# Altium schematic symbol library resistor.SCHLIB: 206 symbols
Pins are listed as number, name and electrical type; pins without a type are passive.

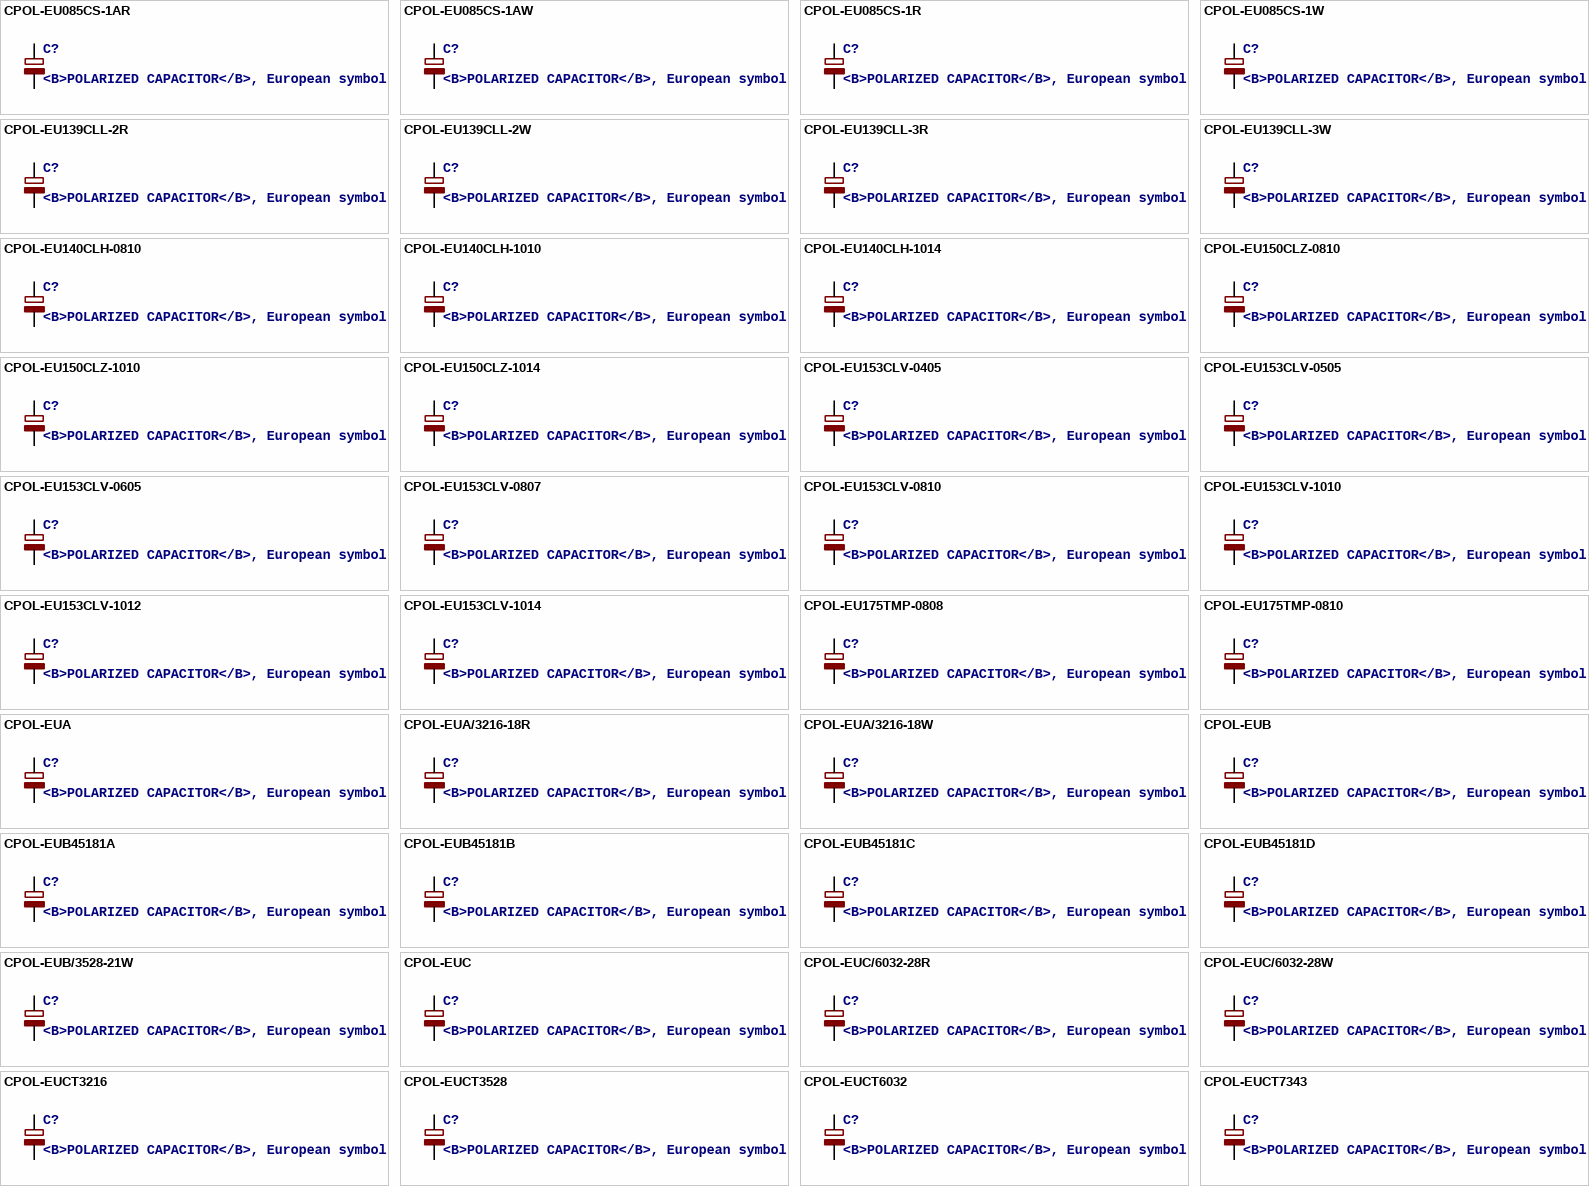
[diagram p0: symbols CPOL-EU085CS-1AR to CPOL-EUCT7343]

## CPOL-EU085CS-1AR
designator C?, comment <B>POLARIZED CAPACITOR</B>, European symbol
footprint 085CS_1AR
pins: +, -

## CPOL-EU085CS-1AW
designator C?, comment <B>POLARIZED CAPACITOR</B>, European symbol
footprint 085CS_1AW
pins: +, -

## CPOL-EU085CS-1R
designator C?, comment <B>POLARIZED CAPACITOR</B>, European symbol
footprint 085CS_1R
pins: +, -

## CPOL-EU085CS-1W
designator C?, comment <B>POLARIZED CAPACITOR</B>, European symbol
footprint 085CS_1W
pins: +, -

## CPOL-EU139CLL-2R
designator C?, comment <B>POLARIZED CAPACITOR</B>, European symbol
footprint 139CLL-2R
pins: +, -

## CPOL-EU139CLL-2W
designator C?, comment <B>POLARIZED CAPACITOR</B>, European symbol
footprint 139CLL-2W
pins: +, -

## CPOL-EU139CLL-3R
designator C?, comment <B>POLARIZED CAPACITOR</B>, European symbol
footprint 139CLL-3R
pins: +, -

## CPOL-EU139CLL-3W
designator C?, comment <B>POLARIZED CAPACITOR</B>, European symbol
footprint 139CLL-3W
pins: +, -

## CPOL-EU140CLH-0810
designator C?, comment <B>POLARIZED CAPACITOR</B>, European symbol
footprint 140CLH-0810
pins: +, -

## CPOL-EU140CLH-1010
designator C?, comment <B>POLARIZED CAPACITOR</B>, European symbol
footprint 140CLH-1010
pins: +, -

## CPOL-EU140CLH-1014
designator C?, comment <B>POLARIZED CAPACITOR</B>, European symbol
footprint 140CLH-1014
pins: +, -

## CPOL-EU150CLZ-0810
designator C?, comment <B>POLARIZED CAPACITOR</B>, European symbol
footprint 150CLZ-0810
pins: +, -

## CPOL-EU150CLZ-1010
designator C?, comment <B>POLARIZED CAPACITOR</B>, European symbol
footprint 150CLZ-1010
pins: +, -

## CPOL-EU150CLZ-1014
designator C?, comment <B>POLARIZED CAPACITOR</B>, European symbol
footprint 150CLZ-1014
pins: +, -

## CPOL-EU153CLV-0405
designator C?, comment <B>POLARIZED CAPACITOR</B>, European symbol
footprint 153CLV-0405
pins: +, -

## CPOL-EU153CLV-0505
designator C?, comment <B>POLARIZED CAPACITOR</B>, European symbol
footprint 153CLV-0505
pins: +, -

## CPOL-EU153CLV-0605
designator C?, comment <B>POLARIZED CAPACITOR</B>, European symbol
footprint 153CLV-0605
pins: +, -

## CPOL-EU153CLV-0807
designator C?, comment <B>POLARIZED CAPACITOR</B>, European symbol
footprint 153CLV-0807
pins: +, -

## CPOL-EU153CLV-0810
designator C?, comment <B>POLARIZED CAPACITOR</B>, European symbol
footprint 153CLV-0810
pins: +, -

## CPOL-EU153CLV-1010
designator C?, comment <B>POLARIZED CAPACITOR</B>, European symbol
footprint 153CLV-1010
pins: +, -

## CPOL-EU153CLV-1012
designator C?, comment <B>POLARIZED CAPACITOR</B>, European symbol
footprint 153CLV-1012
pins: +, -

## CPOL-EU153CLV-1014
designator C?, comment <B>POLARIZED CAPACITOR</B>, European symbol
footprint 153CLV-1014
pins: +, -

## CPOL-EU175TMP-0808
designator C?, comment <B>POLARIZED CAPACITOR</B>, European symbol
footprint 175TMP-0808
pins: +, -

## CPOL-EU175TMP-0810
designator C?, comment <B>POLARIZED CAPACITOR</B>, European symbol
footprint 175TMP-0810
pins: +, -

## CPOL-EUA
designator C?, comment <B>POLARIZED CAPACITOR</B>, European symbol
footprint PANASONIC_A
pins: +, -

## CPOL-EUA/3216-18R
designator C?, comment <B>POLARIZED CAPACITOR</B>, European symbol
footprint A/3216-18R
pins: +, -

## CPOL-EUA/3216-18W
designator C?, comment <B>POLARIZED CAPACITOR</B>, European symbol
footprint A/3216-18W
pins: +, -

## CPOL-EUB
designator C?, comment <B>POLARIZED CAPACITOR</B>, European symbol
footprint PANASONIC_B
pins: +, -

## CPOL-EUB45181A
designator C?, comment <B>POLARIZED CAPACITOR</B>, European symbol
footprint B45181A
pins: +, -

## CPOL-EUB45181B
designator C?, comment <B>POLARIZED CAPACITOR</B>, European symbol
footprint B45181B
pins: +, -

## CPOL-EUB45181C
designator C?, comment <B>POLARIZED CAPACITOR</B>, European symbol
footprint B45181C
pins: +, -

## CPOL-EUB45181D
designator C?, comment <B>POLARIZED CAPACITOR</B>, European symbol
footprint B45181D
pins: +, -

## CPOL-EUB/3528-21W
designator C?, comment <B>POLARIZED CAPACITOR</B>, European symbol
footprint B/3528-21W
pins: +, -

## CPOL-EUC
designator C?, comment <B>POLARIZED CAPACITOR</B>, European symbol
footprint PANASONIC_C
pins: +, -

## CPOL-EUC/6032-28R
designator C?, comment <B>POLARIZED CAPACITOR</B>, European symbol
footprint C/6032-28R
pins: +, -

## CPOL-EUC/6032-28W
designator C?, comment <B>POLARIZED CAPACITOR</B>, European symbol
footprint C/6032-28W
pins: +, -

## CPOL-EUCT3216
designator C?, comment <B>POLARIZED CAPACITOR</B>, European symbol
footprint CT3216
pins: + -, - +

## CPOL-EUCT3528
designator C?, comment <B>POLARIZED CAPACITOR</B>, European symbol
footprint CT3528
pins: + -, - +

## CPOL-EUCT6032
designator C?, comment <B>POLARIZED CAPACITOR</B>, European symbol
footprint CT6032
pins: + -, - +

## CPOL-EUCT7343
designator C?, comment <B>POLARIZED CAPACITOR</B>, European symbol
footprint CT7343
pins: +, -

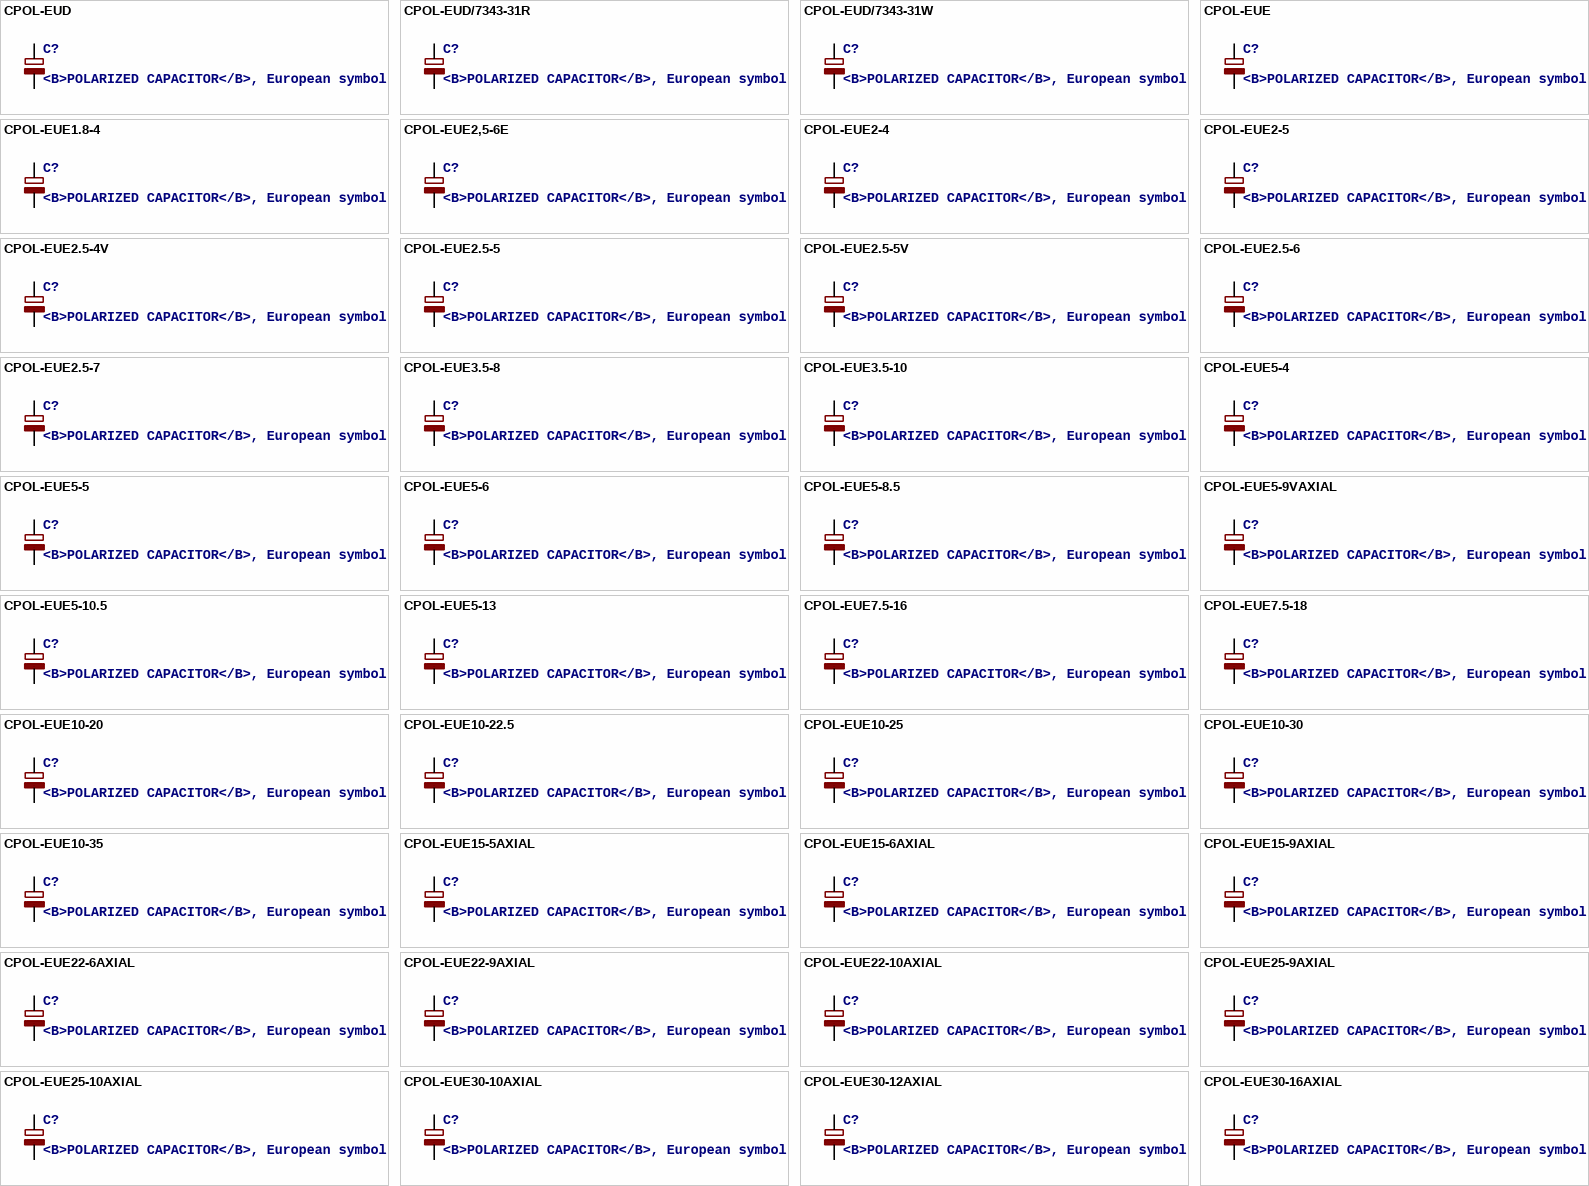
[diagram p1: symbols CPOL-EUD to CPOL-EUE30-16AXIAL]

## CPOL-EUD
designator C?, comment <B>POLARIZED CAPACITOR</B>, European symbol
footprint PANASONIC_D
pins: +, -

## CPOL-EUD/7343-31R
designator C?, comment <B>POLARIZED CAPACITOR</B>, European symbol
footprint D/7343-31R
pins: +, -

## CPOL-EUD/7343-31W
designator C?, comment <B>POLARIZED CAPACITOR</B>, European symbol
footprint D/7343-31W
pins: +, -

## CPOL-EUE
designator C?, comment <B>POLARIZED CAPACITOR</B>, European symbol
footprint PANASONIC_E
pins: +, -

## CPOL-EUE1.8-4
designator C?, comment <B>POLARIZED CAPACITOR</B>, European symbol
footprint E1,8-4
pins: +, -

## CPOL-EUE2,5-6E
designator C?, comment <B>POLARIZED CAPACITOR</B>, European symbol
footprint E2,5-6E
pins: +, -

## CPOL-EUE2-4
designator C?, comment <B>POLARIZED CAPACITOR</B>, European symbol
footprint E2-4
pins: +, -

## CPOL-EUE2-5
designator C?, comment <B>POLARIZED CAPACITOR</B>, European symbol
footprint E2-5
pins: +, -

## CPOL-EUE2.5-4V
designator C?, comment <B>POLARIZED CAPACITOR</B>, European symbol
footprint E2,5RE
pins: +, -

## CPOL-EUE2.5-5
designator C?, comment <B>POLARIZED CAPACITOR</B>, European symbol
footprint E2,5-5
pins: +, -

## CPOL-EUE2.5-5V
designator C?, comment <B>POLARIZED CAPACITOR</B>, European symbol
footprint E2,5-4R
pins: +, -

## CPOL-EUE2.5-6
designator C?, comment <B>POLARIZED CAPACITOR</B>, European symbol
footprint E2,5-6
pins: +, -

## CPOL-EUE2.5-7
designator C?, comment <B>POLARIZED CAPACITOR</B>, European symbol
footprint E2,5-7
pins: +, -

## CPOL-EUE3.5-8
designator C?, comment <B>POLARIZED CAPACITOR</B>, European symbol
footprint E3,5-8
pins: +, -

## CPOL-EUE3.5-10
designator C?, comment <B>POLARIZED CAPACITOR</B>, European symbol
footprint E3,5-10
pins: +, -

## CPOL-EUE5-4
designator C?, comment <B>POLARIZED CAPACITOR</B>, European symbol
footprint E5-4
pins: +, -

## CPOL-EUE5-5
designator C?, comment <B>POLARIZED CAPACITOR</B>, European symbol
footprint E5-5
pins: +, -

## CPOL-EUE5-6
designator C?, comment <B>POLARIZED CAPACITOR</B>, European symbol
footprint E5-6
pins: +, -

## CPOL-EUE5-8.5
designator C?, comment <B>POLARIZED CAPACITOR</B>, European symbol
footprint E5-8,5
pins: +, -

## CPOL-EUE5-9VAXIAL
designator C?, comment <B>POLARIZED CAPACITOR</B>, European symbol
footprint E5R
pins: +, -

## CPOL-EUE5-10.5
designator C?, comment <B>POLARIZED CAPACITOR</B>, European symbol
footprint E5-10,5
pins: +, -

## CPOL-EUE5-13
designator C?, comment <B>POLARIZED CAPACITOR</B>, European symbol
footprint E5-13
pins: +, -

## CPOL-EUE7.5-16
designator C?, comment <B>POLARIZED CAPACITOR</B>, European symbol
footprint E7,5-16
pins: +, -

## CPOL-EUE7.5-18
designator C?, comment <B>POLARIZED CAPACITOR</B>, European symbol
footprint E7,5-18
pins: +, -

## CPOL-EUE10-20
designator C?, comment <B>POLARIZED CAPACITOR</B>, European symbol
footprint EB20D
pins: +, -

## CPOL-EUE10-22.5
designator C?, comment <B>POLARIZED CAPACITOR</B>, European symbol
footprint EB22,5D
pins: +, -

## CPOL-EUE10-25
designator C?, comment <B>POLARIZED CAPACITOR</B>, European symbol
footprint EB25D
pins: +, -

## CPOL-EUE10-30
designator C?, comment <B>POLARIZED CAPACITOR</B>, European symbol
footprint EB30D
pins: +, -

## CPOL-EUE10-35
designator C?, comment <B>POLARIZED CAPACITOR</B>, European symbol
footprint EB35D
pins: +, -

## CPOL-EUE15-5AXIAL
designator C?, comment <B>POLARIZED CAPACITOR</B>, European symbol
footprint E15-5
pins: +, -

## CPOL-EUE15-6AXIAL
designator C?, comment <B>POLARIZED CAPACITOR</B>, European symbol
footprint E15-6
pins: +, -

## CPOL-EUE15-9AXIAL
designator C?, comment <B>POLARIZED CAPACITOR</B>, European symbol
footprint E15-9
pins: +, -

## CPOL-EUE22-6AXIAL
designator C?, comment <B>POLARIZED CAPACITOR</B>, European symbol
footprint E22-6
pins: +, -

## CPOL-EUE22-9AXIAL
designator C?, comment <B>POLARIZED CAPACITOR</B>, European symbol
footprint E22-9
pins: +, -

## CPOL-EUE22-10AXIAL
designator C?, comment <B>POLARIZED CAPACITOR</B>, European symbol
footprint E22-10
pins: +, -

## CPOL-EUE25-9AXIAL
designator C?, comment <B>POLARIZED CAPACITOR</B>, European symbol
footprint E25-9
pins: +, -

## CPOL-EUE25-10AXIAL
designator C?, comment <B>POLARIZED CAPACITOR</B>, European symbol
footprint E25-10
pins: +, -

## CPOL-EUE30-10AXIAL
designator C?, comment <B>POLARIZED CAPACITOR</B>, European symbol
footprint E30-10
pins: +, -

## CPOL-EUE30-12AXIAL
designator C?, comment <B>POLARIZED CAPACITOR</B>, European symbol
footprint E30-12
pins: +, -

## CPOL-EUE30-16AXIAL
designator C?, comment <B>POLARIZED CAPACITOR</B>, European symbol
footprint E30-16
pins: +, -

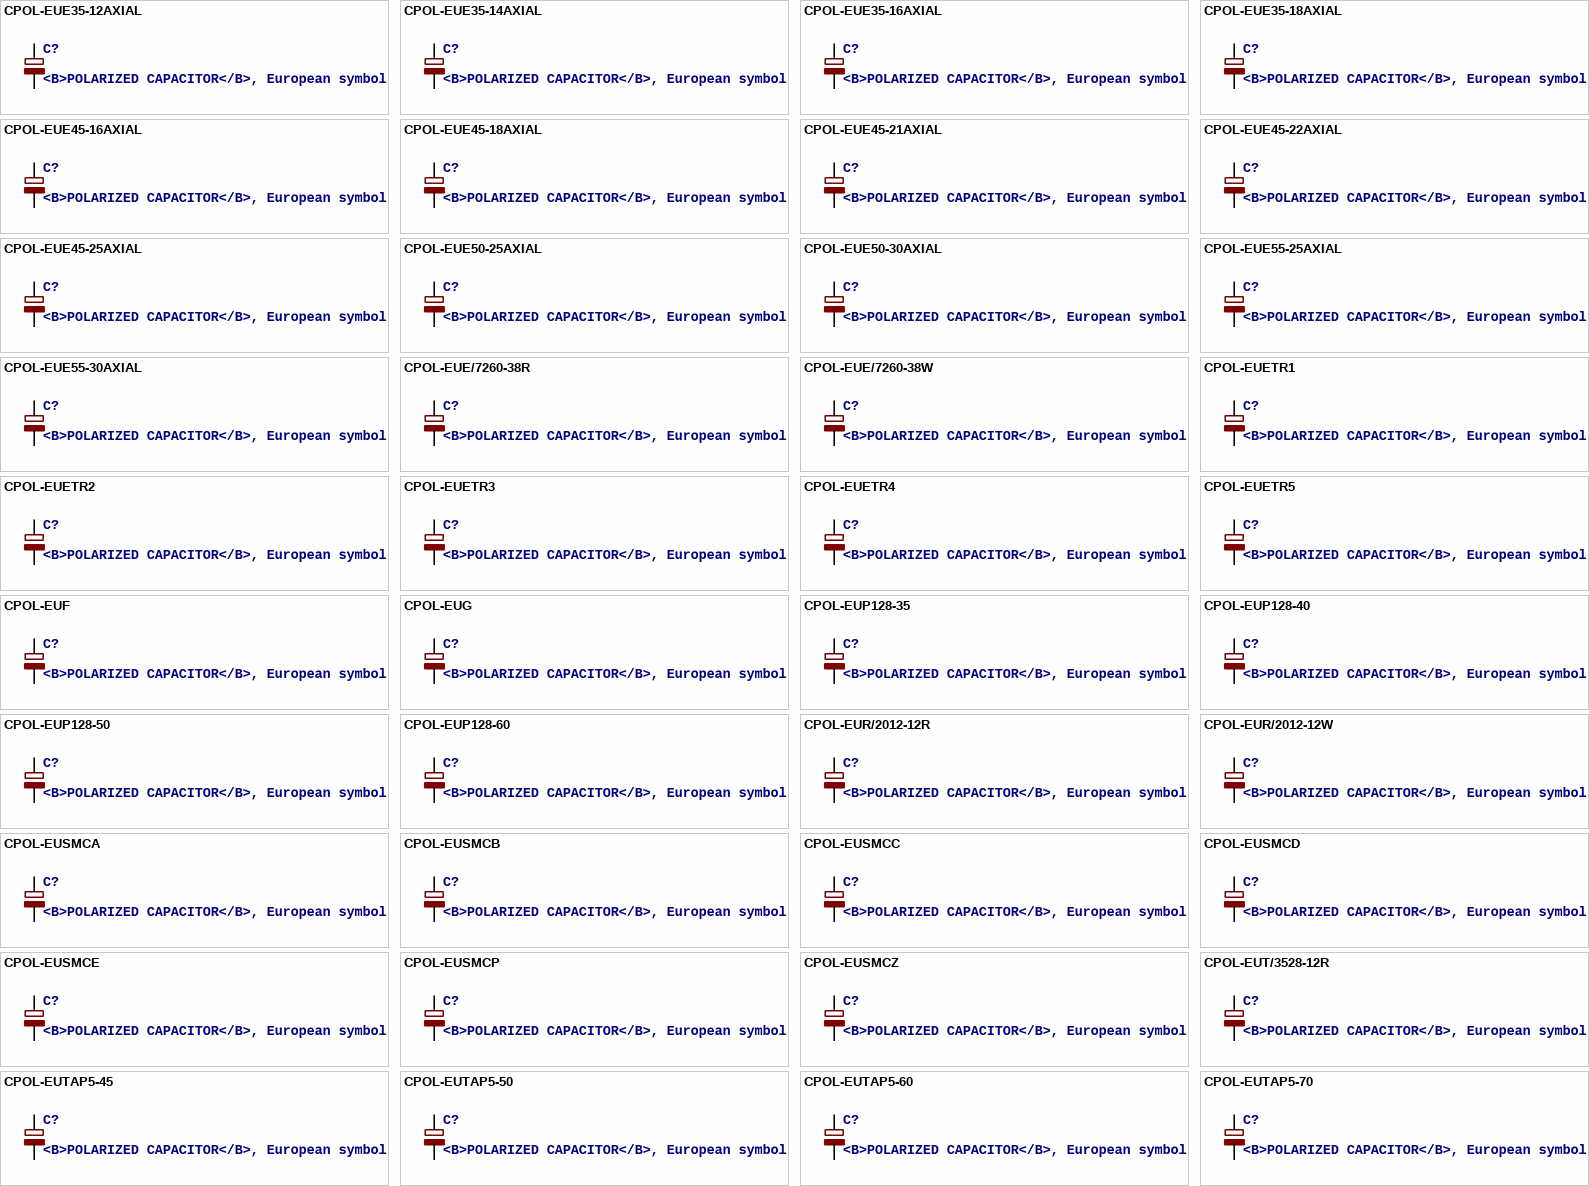
[diagram p2: symbols CPOL-EUE35-12AXIAL to CPOL-EUTAP5-70]

## CPOL-EUE35-12AXIAL
designator C?, comment <B>POLARIZED CAPACITOR</B>, European symbol
footprint E35-12
pins: +, -

## CPOL-EUE35-14AXIAL
designator C?, comment <B>POLARIZED CAPACITOR</B>, European symbol
footprint E35-14
pins: +, -

## CPOL-EUE35-16AXIAL
designator C?, comment <B>POLARIZED CAPACITOR</B>, European symbol
footprint E35-16
pins: +, -

## CPOL-EUE35-18AXIAL
designator C?, comment <B>POLARIZED CAPACITOR</B>, European symbol
footprint E35-18
pins: +, -

## CPOL-EUE45-16AXIAL
designator C?, comment <B>POLARIZED CAPACITOR</B>, European symbol
footprint E45-16
pins: +, -

## CPOL-EUE45-18AXIAL
designator C?, comment <B>POLARIZED CAPACITOR</B>, European symbol
footprint E45-18
pins: +, -

## CPOL-EUE45-21AXIAL
designator C?, comment <B>POLARIZED CAPACITOR</B>, European symbol
footprint E45-21
pins: +, -

## CPOL-EUE45-22AXIAL
designator C?, comment <B>POLARIZED CAPACITOR</B>, European symbol
footprint E45-22
pins: +, -

## CPOL-EUE45-25AXIAL
designator C?, comment <B>POLARIZED CAPACITOR</B>, European symbol
footprint E45-25
pins: +, -

## CPOL-EUE50-25AXIAL
designator C?, comment <B>POLARIZED CAPACITOR</B>, European symbol
footprint E50-25
pins: +, -

## CPOL-EUE50-30AXIAL
designator C?, comment <B>POLARIZED CAPACITOR</B>, European symbol
footprint E50-30
pins: +, -

## CPOL-EUE55-25AXIAL
designator C?, comment <B>POLARIZED CAPACITOR</B>, European symbol
footprint E55-25
pins: +, -

## CPOL-EUE55-30AXIAL
designator C?, comment <B>POLARIZED CAPACITOR</B>, European symbol
footprint E55-30
pins: +, -

## CPOL-EUE/7260-38R
designator C?, comment <B>POLARIZED CAPACITOR</B>, European symbol
footprint E/7260-38R
pins: +, -

## CPOL-EUE/7260-38W
designator C?, comment <B>POLARIZED CAPACITOR</B>, European symbol
footprint E/7260-38W
pins: +, -

## CPOL-EUETR1
designator C?, comment <B>POLARIZED CAPACITOR</B>, European symbol
footprint ETR1
pins: +, -

## CPOL-EUETR2
designator C?, comment <B>POLARIZED CAPACITOR</B>, European symbol
footprint ETR2
pins: +, -

## CPOL-EUETR3
designator C?, comment <B>POLARIZED CAPACITOR</B>, European symbol
footprint ETR3
pins: +, -

## CPOL-EUETR4
designator C?, comment <B>POLARIZED CAPACITOR</B>, European symbol
footprint ETR4
pins: +, -

## CPOL-EUETR5
designator C?, comment <B>POLARIZED CAPACITOR</B>, European symbol
footprint ETR5
pins: +, -

## CPOL-EUF
designator C?, comment <B>POLARIZED CAPACITOR</B>, European symbol
footprint PANASONIC_F
pins: +, -

## CPOL-EUG
designator C?, comment <B>POLARIZED CAPACITOR</B>, European symbol
footprint PANASONIC_G
pins: +, -

## CPOL-EUP128-35
designator C?, comment <B>POLARIZED CAPACITOR</B>, European symbol
footprint P128-35
pins: +, -

## CPOL-EUP128-40
designator C?, comment <B>POLARIZED CAPACITOR</B>, European symbol
footprint P128-40
pins: +, -

## CPOL-EUP128-50
designator C?, comment <B>POLARIZED CAPACITOR</B>, European symbol
footprint P128-50
pins: +, -

## CPOL-EUP128-60
designator C?, comment <B>POLARIZED CAPACITOR</B>, European symbol
footprint P128-60
pins: +, -

## CPOL-EUR/2012-12R
designator C?, comment <B>POLARIZED CAPACITOR</B>, European symbol
footprint R/2012-12R
pins: +, -

## CPOL-EUR/2012-12W
designator C?, comment <B>POLARIZED CAPACITOR</B>, European symbol
footprint R/2012-12W
pins: +, -

## CPOL-EUSMCA
designator C?, comment <B>POLARIZED CAPACITOR</B>, European symbol
footprint SMC_A
pins: +, -

## CPOL-EUSMCB
designator C?, comment <B>POLARIZED CAPACITOR</B>, European symbol
footprint SMC_B
pins: +, -

## CPOL-EUSMCC
designator C?, comment <B>POLARIZED CAPACITOR</B>, European symbol
footprint SMC_C
pins: +, -

## CPOL-EUSMCD
designator C?, comment <B>POLARIZED CAPACITOR</B>, European symbol
footprint SMC_D
pins: +, -

## CPOL-EUSMCE
designator C?, comment <B>POLARIZED CAPACITOR</B>, European symbol
footprint SMC_E
pins: +, -

## CPOL-EUSMCP
designator C?, comment <B>POLARIZED CAPACITOR</B>, European symbol
footprint SMC_P
pins: +, -

## CPOL-EUSMCZ
designator C?, comment <B>POLARIZED CAPACITOR</B>, European symbol
footprint SMC_Z
pins: +, -

## CPOL-EUT/3528-12R
designator C?, comment <B>POLARIZED CAPACITOR</B>, European symbol
footprint T/3528-12R
pins: +, -

## CPOL-EUTAP5-45
designator C?, comment <B>POLARIZED CAPACITOR</B>, European symbol
footprint TAP5-45
pins: +, -

## CPOL-EUTAP5-50
designator C?, comment <B>POLARIZED CAPACITOR</B>, European symbol
footprint TAP5-50
pins: +, -

## CPOL-EUTAP5-60
designator C?, comment <B>POLARIZED CAPACITOR</B>, European symbol
footprint TAP5-60
pins: +, -

## CPOL-EUTAP5-70
designator C?, comment <B>POLARIZED CAPACITOR</B>, European symbol
footprint TAP5-70
pins: +, -

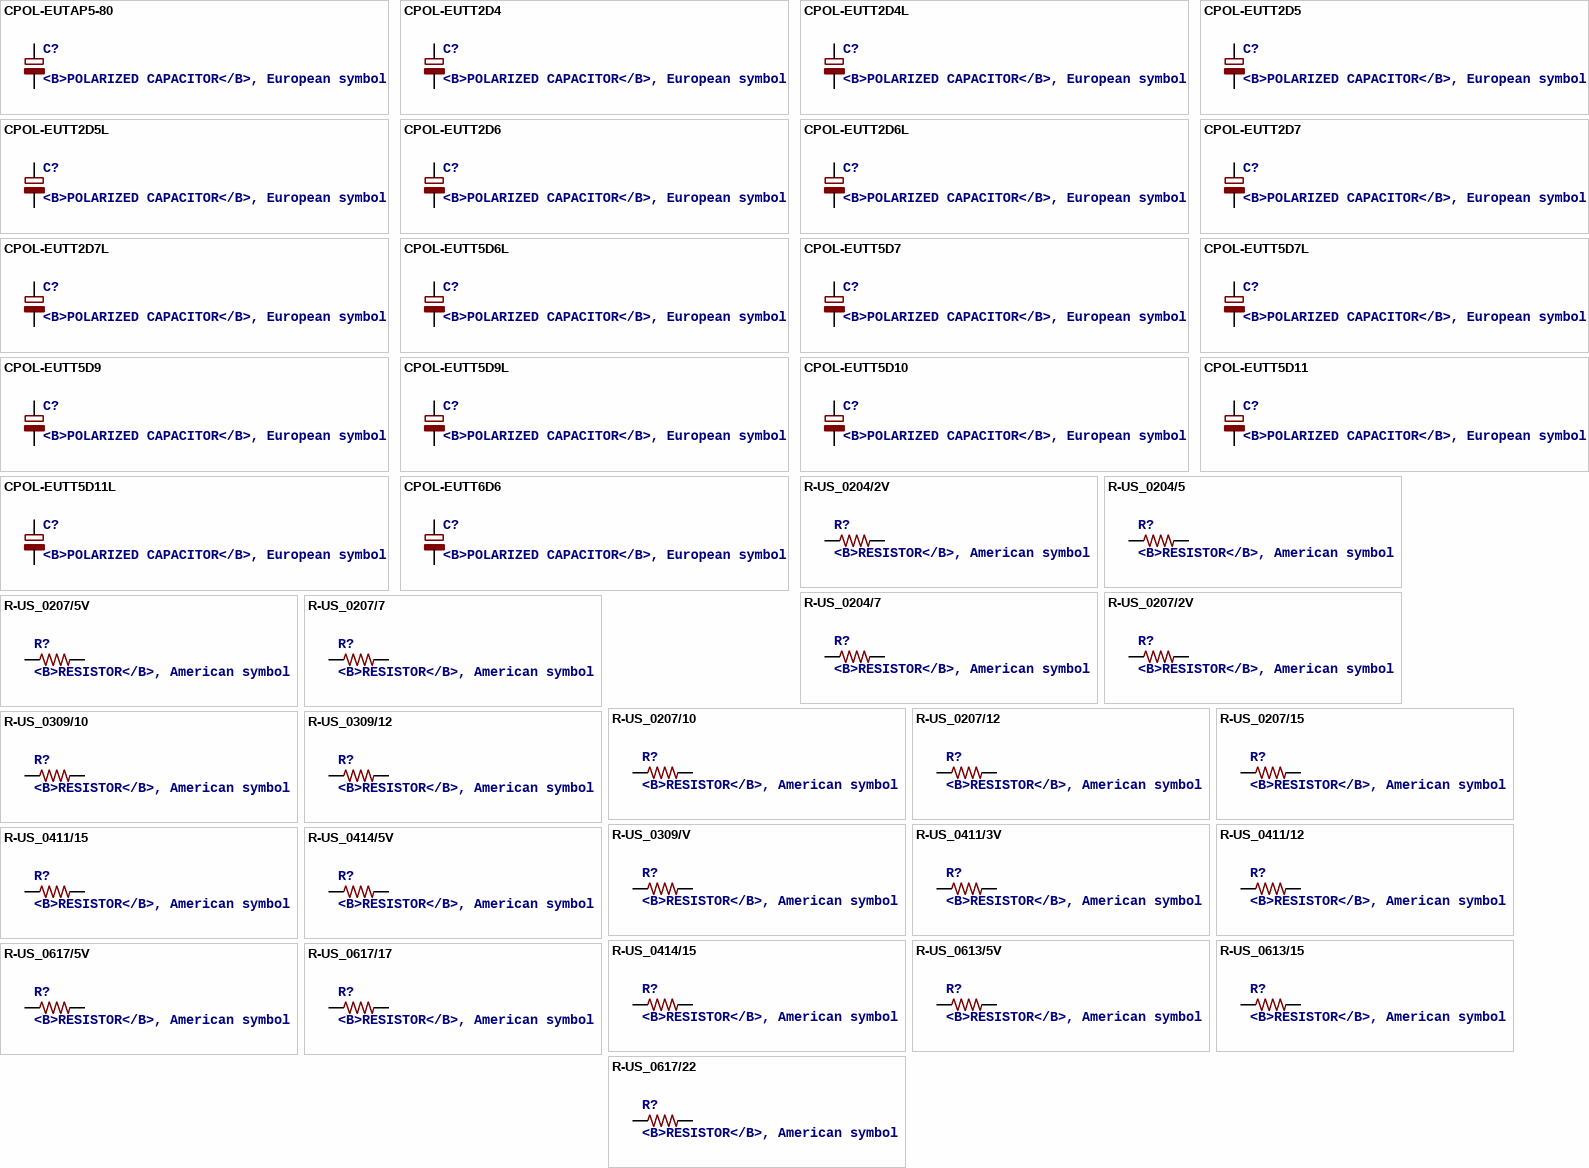
[diagram p3: symbols CPOL-EUTAP5-80 to R-US_0617/22]

## CPOL-EUTAP5-80
designator C?, comment <B>POLARIZED CAPACITOR</B>, European symbol
footprint TAP5-80
pins: +, -

## CPOL-EUTT2D4
designator C?, comment <B>POLARIZED CAPACITOR</B>, European symbol
footprint TT2D4
pins: +, -

## CPOL-EUTT2D4L
designator C?, comment <B>POLARIZED CAPACITOR</B>, European symbol
footprint TT2D4L
pins: +, -

## CPOL-EUTT2D5
designator C?, comment <B>POLARIZED CAPACITOR</B>, European symbol
footprint TT2D5
pins: +, -

## CPOL-EUTT2D5L
designator C?, comment <B>POLARIZED CAPACITOR</B>, European symbol
footprint TT2D5L
pins: +, -

## CPOL-EUTT2D6
designator C?, comment <B>POLARIZED CAPACITOR</B>, European symbol
footprint TT2D6
pins: +, -

## CPOL-EUTT2D6L
designator C?, comment <B>POLARIZED CAPACITOR</B>, European symbol
footprint TT2D6L
pins: +, -

## CPOL-EUTT2D7
designator C?, comment <B>POLARIZED CAPACITOR</B>, European symbol
footprint TT2D7
pins: +, -

## CPOL-EUTT2D7L
designator C?, comment <B>POLARIZED CAPACITOR</B>, European symbol
footprint TT2D7L
pins: +, -

## CPOL-EUTT5D6L
designator C?, comment <B>POLARIZED CAPACITOR</B>, European symbol
footprint TT5D6L
pins: +, -

## CPOL-EUTT5D7
designator C?, comment <B>POLARIZED CAPACITOR</B>, European symbol
footprint TT5D7
pins: +, -

## CPOL-EUTT5D7L
designator C?, comment <B>POLARIZED CAPACITOR</B>, European symbol
footprint TT5D7L
pins: +, -

## CPOL-EUTT5D9
designator C?, comment <B>POLARIZED CAPACITOR</B>, European symbol
footprint TT5D9
pins: +, -

## CPOL-EUTT5D9L
designator C?, comment <B>POLARIZED CAPACITOR</B>, European symbol
footprint TT5D9L
pins: +, -

## CPOL-EUTT5D10
designator C?, comment <B>POLARIZED CAPACITOR</B>, European symbol
footprint TT5D10
pins: +, -

## CPOL-EUTT5D11
designator C?, comment <B>POLARIZED CAPACITOR</B>, European symbol
footprint TT5D11
pins: +, -

## CPOL-EUTT5D11L
designator C?, comment <B>POLARIZED CAPACITOR</B>, European symbol
footprint TT5D11L
pins: +, -

## CPOL-EUTT6D6
designator C?, comment <B>POLARIZED CAPACITOR</B>, European symbol
footprint TT5D6
pins: +, -

## R-US_0204/2V
designator R?, comment <B>RESISTOR</B>, American symbol
footprint 0204V
pins: 1, 2

## R-US_0204/5
designator R?, comment <B>RESISTOR</B>, American symbol
footprint 0204/5
pins: 1, 2

## R-US_0204/7
designator R?, comment <B>RESISTOR</B>, American symbol
footprint 0204/7
pins: 1, 2

## R-US_0207/2V
designator R?, comment <B>RESISTOR</B>, American symbol
footprint 0207/2V
pins: 1, 2

## R-US_0207/5V
designator R?, comment <B>RESISTOR</B>, American symbol
footprint 0207/5V
pins: 1, 2

## R-US_0207/7
designator R?, comment <B>RESISTOR</B>, American symbol
footprint 0207/7
pins: 1, 2

## R-US_0207/10
designator R?, comment <B>RESISTOR</B>, American symbol
footprint 0207/10
pins: 1, 2

## R-US_0207/12
designator R?, comment <B>RESISTOR</B>, American symbol
footprint 0207/12
pins: 1, 2

## R-US_0207/15
designator R?, comment <B>RESISTOR</B>, American symbol
footprint 0207/15
pins: 1, 2

## R-US_0309/10
designator R?, comment <B>RESISTOR</B>, American symbol
footprint 0309/10
pins: 1, 2

## R-US_0309/12
designator R?, comment <B>RESISTOR</B>, American symbol
footprint 0309/12
pins: 1, 2

## R-US_0309/V
designator R?, comment <B>RESISTOR</B>, American symbol
footprint 0309V
pins: 1, 2

## R-US_0411/3V
designator R?, comment <B>RESISTOR</B>, American symbol
footprint 0411V
pins: 1, 2

## R-US_0411/12
designator R?, comment <B>RESISTOR</B>, American symbol
footprint 0411/12
pins: 1, 2

## R-US_0411/15
designator R?, comment <B>RESISTOR</B>, American symbol
footprint 0411/15
pins: 1, 2

## R-US_0414/5V
designator R?, comment <B>RESISTOR</B>, American symbol
footprint 0414V
pins: 1, 2

## R-US_0414/15
designator R?, comment <B>RESISTOR</B>, American symbol
footprint 0414/15
pins: 1, 2

## R-US_0613/5V
designator R?, comment <B>RESISTOR</B>, American symbol
footprint P0613V
pins: 1, 2

## R-US_0613/15
designator R?, comment <B>RESISTOR</B>, American symbol
footprint P0613/15
pins: 1, 2

## R-US_0617/5V
designator R?, comment <B>RESISTOR</B>, American symbol
footprint 0617V
pins: 1, 2

## R-US_0617/17
designator R?, comment <B>RESISTOR</B>, American symbol
footprint 0617/17
pins: 1, 2

## R-US_0617/22
designator R?, comment <B>RESISTOR</B>, American symbol
footprint 0617/22
pins: 1, 2

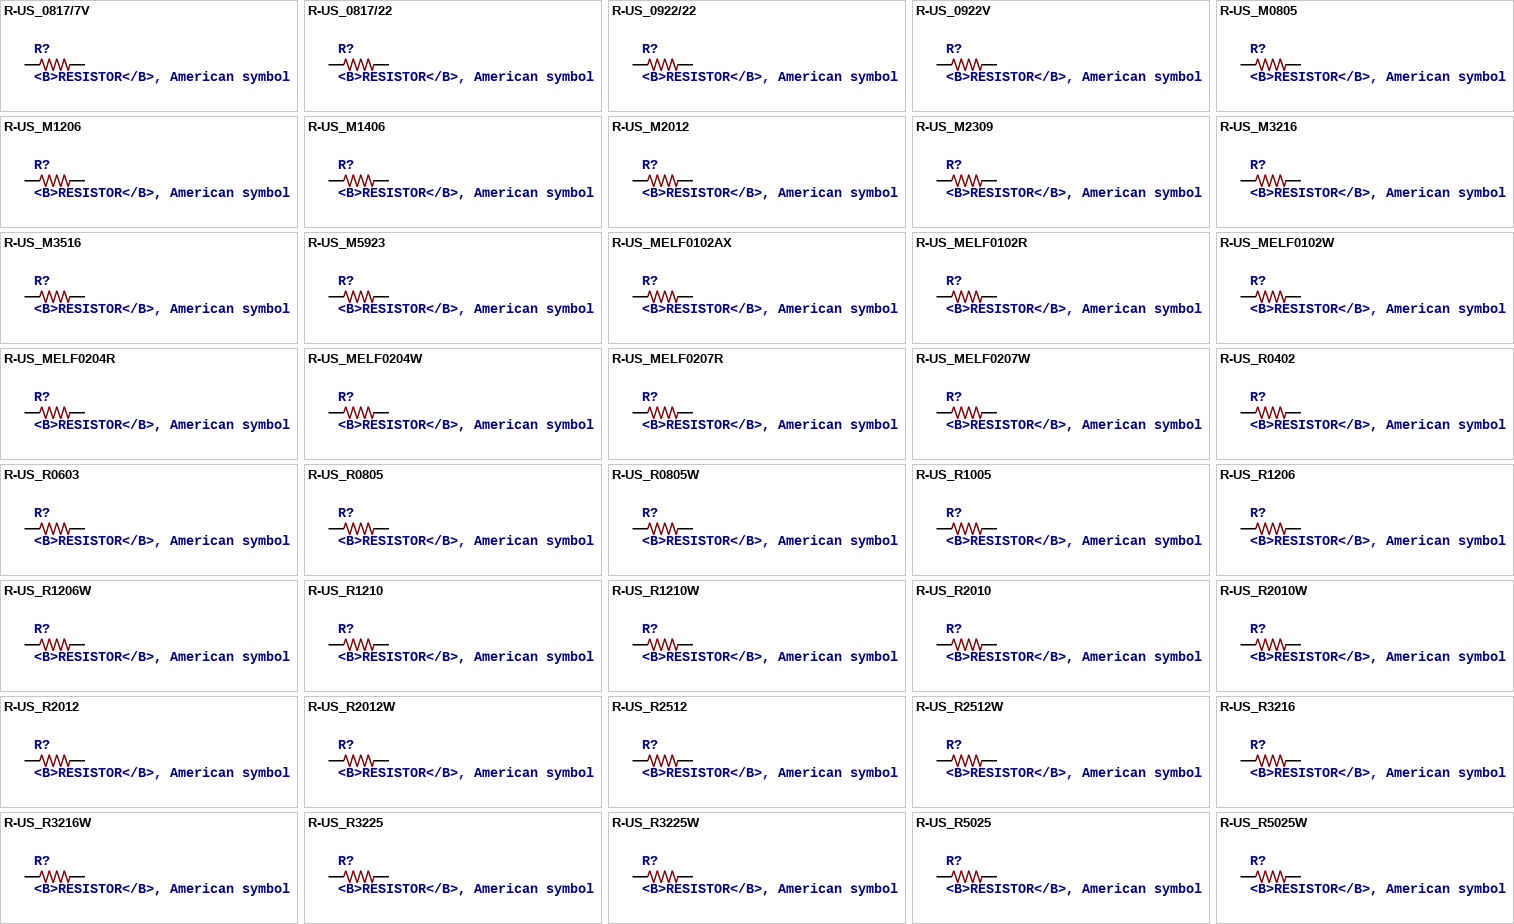
[diagram p4: symbols R-US_0817/7V to R-US_R5025W]

## R-US_0817/7V
designator R?, comment <B>RESISTOR</B>, American symbol
footprint P0817V
pins: 1, 2

## R-US_0817/22
designator R?, comment <B>RESISTOR</B>, American symbol
footprint P0817/22
pins: 1, 2

## R-US_0922/22
designator R?, comment <B>RESISTOR</B>, American symbol
footprint 0922/22
pins: 1, 2

## R-US_0922V
designator R?, comment <B>RESISTOR</B>, American symbol
footprint 0922V
pins: 1, 2

## R-US_M0805
designator R?, comment <B>RESISTOR</B>, American symbol
footprint M0805
pins: 1, 2

## R-US_M1206
designator R?, comment <B>RESISTOR</B>, American symbol
footprint M1206
pins: 1, 2

## R-US_M1406
designator R?, comment <B>RESISTOR</B>, American symbol
footprint M1406
pins: 1, 2

## R-US_M2012
designator R?, comment <B>RESISTOR</B>, American symbol
footprint M2012
pins: 1, 2

## R-US_M2309
designator R?, comment <B>RESISTOR</B>, American symbol
footprint M2309
pins: 1, 2

## R-US_M3216
designator R?, comment <B>RESISTOR</B>, American symbol
footprint M3216
pins: 1, 2

## R-US_M3516
designator R?, comment <B>RESISTOR</B>, American symbol
footprint M3516
pins: 1, 2

## R-US_M5923
designator R?, comment <B>RESISTOR</B>, American symbol
footprint M5923
pins: 1, 2

## R-US_MELF0102AX
designator R?, comment <B>RESISTOR</B>, American symbol
footprint MINI_MELF-0102AX
pins: 1, 2

## R-US_MELF0102R
designator R?, comment <B>RESISTOR</B>, American symbol
footprint MINI_MELF-0102R
pins: 1, 2

## R-US_MELF0102W
designator R?, comment <B>RESISTOR</B>, American symbol
footprint MINI_MELF-0102W
pins: 1, 2

## R-US_MELF0204R
designator R?, comment <B>RESISTOR</B>, American symbol
footprint MINI_MELF-0204R
pins: 1, 2

## R-US_MELF0204W
designator R?, comment <B>RESISTOR</B>, American symbol
footprint MINI_MELF-0204W
pins: 1, 2

## R-US_MELF0207R
designator R?, comment <B>RESISTOR</B>, American symbol
footprint MINI_MELF-0207R
pins: 1, 2

## R-US_MELF0207W
designator R?, comment <B>RESISTOR</B>, American symbol
footprint MINI_MELF-0207W
pins: 1, 2

## R-US_R0402
designator R?, comment <B>RESISTOR</B>, American symbol
footprint R0402
pins: 1, 2

## R-US_R0603
designator R?, comment <B>RESISTOR</B>, American symbol
footprint R0603
pins: 1, 2

## R-US_R0805
designator R?, comment <B>RESISTOR</B>, American symbol
footprint R0805
pins: 1, 2

## R-US_R0805W
designator R?, comment <B>RESISTOR</B>, American symbol
footprint R0805W
pins: 1, 2

## R-US_R1005
designator R?, comment <B>RESISTOR</B>, American symbol
footprint R1005
pins: 1, 2

## R-US_R1206
designator R?, comment <B>RESISTOR</B>, American symbol
footprint R1206
pins: 1, 2

## R-US_R1206W
designator R?, comment <B>RESISTOR</B>, American symbol
footprint R1206W
pins: 1, 2

## R-US_R1210
designator R?, comment <B>RESISTOR</B>, American symbol
footprint R1210
pins: 1, 2

## R-US_R1210W
designator R?, comment <B>RESISTOR</B>, American symbol
footprint R1210W
pins: 1, 2

## R-US_R2010
designator R?, comment <B>RESISTOR</B>, American symbol
footprint R2010
pins: 1, 2

## R-US_R2010W
designator R?, comment <B>RESISTOR</B>, American symbol
footprint R2010W
pins: 1, 2

## R-US_R2012
designator R?, comment <B>RESISTOR</B>, American symbol
footprint R2012
pins: 1, 2

## R-US_R2012W
designator R?, comment <B>RESISTOR</B>, American symbol
footprint R2012W
pins: 1, 2

## R-US_R2512
designator R?, comment <B>RESISTOR</B>, American symbol
footprint R2512
pins: 1, 2

## R-US_R2512W
designator R?, comment <B>RESISTOR</B>, American symbol
footprint R2512W
pins: 1, 2

## R-US_R3216
designator R?, comment <B>RESISTOR</B>, American symbol
footprint R3216
pins: 1, 2

## R-US_R3216W
designator R?, comment <B>RESISTOR</B>, American symbol
footprint R3216W
pins: 1, 2

## R-US_R3225
designator R?, comment <B>RESISTOR</B>, American symbol
footprint R3225
pins: 1, 2

## R-US_R3225W
designator R?, comment <B>RESISTOR</B>, American symbol
footprint R3225W
pins: 1, 2

## R-US_R5025
designator R?, comment <B>RESISTOR</B>, American symbol
footprint R5025
pins: 1, 2

## R-US_R5025W
designator R?, comment <B>RESISTOR</B>, American symbol
footprint R5025W
pins: 1, 2

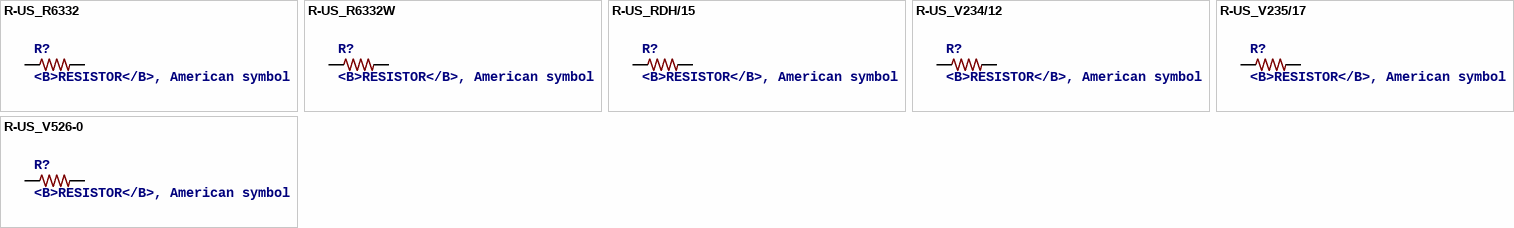
[diagram p5: symbols R-US_R6332 to R-US_V526-0]

## R-US_R6332
designator R?, comment <B>RESISTOR</B>, American symbol
footprint R6332
pins: 1, 2

## R-US_R6332W
designator R?, comment <B>RESISTOR</B>, American symbol
footprint R6332W
pins: 1, 2

## R-US_RDH/15
designator R?, comment <B>RESISTOR</B>, American symbol
footprint RDH/15
pins: 1, 2

## R-US_V234/12
designator R?, comment <B>RESISTOR</B>, American symbol
footprint V234/12
pins: 1, 2

## R-US_V235/17
designator R?, comment <B>RESISTOR</B>, American symbol
footprint V235/17
pins: 1, 2

## R-US_V526-0
designator R?, comment <B>RESISTOR</B>, American symbol
footprint V526-0
pins: 1, 2